# Altium footprint library Qorvo.PcbLib: 2 footprints
Each footprint in its own frame and in the unit in brackets; x right, y up, seen from the top. Pads: shape width x height; smd on the part's side, far side on the other; paste and mask are expansions set on the pad; w line width, h text height; cw(c..) or ccw(c..) is an arc to the next point about the centre after c.
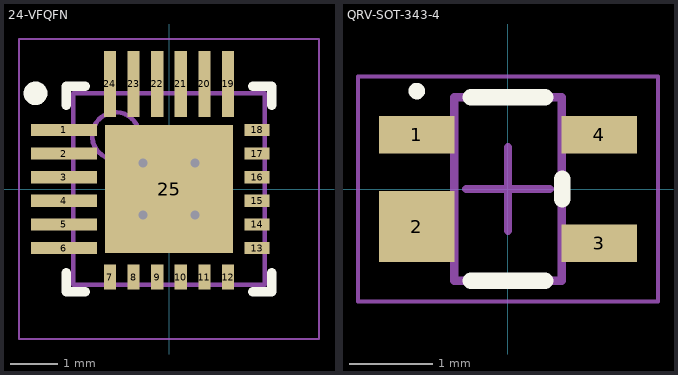
[diagram p0: the footprints below, top view; thin cyan lines are the x and y axes]

## 24-VFQFN [mm] "QFN, 24-Leads, Body 4.00x4.00mm, Pitch 0.50mm, Thermal Pad 2.70x2.70mm, IPC Low Density"
height 0.9
pads (25):
  rect 1.4x0.26 smd: 1(-2.225,1.25) 2(-2.225,0.75) 3(-2.225,0.25) 4(-2.225,-0.25) 5(-2.225,-0.75) 6(-2.225,-1.25)
  rect 0.26x0.528 smd: 7(-1.25,-1.864) 8(-0.75,-1.864) 9(-0.25,-1.864) 10(0.25,-1.864) 11(0.75,-1.864) 12(1.25,-1.864)
  rect 0.528x0.26 smd: 13(1.864,-1.25) 14(1.864,-0.75) 15(1.864,-0.25) 16(1.864,0.25) 17(1.864,0.75) 18(1.864,1.25)
  rect 0.26x1.4 smd: 19(1.25,2.225) 20(0.75,2.225) 21(0.25,2.225) 22(-0.25,2.225) 23(-0.75,2.225) 24(-1.25,2.225)
  rect 2.7x2.7 smd: 25(0,0)
via -0.55,0.55 diameter 0.5 hole 0.2
via 0.55,0.55 diameter 0.5 hole 0.2
via -0.55,-0.55 diameter 0.5 hole 0.2
via 0.55,-0.55 diameter 0.5 hole 0.2
Top Overlay:
  circle w0.25: c-2.825,2.025 r0.125
  lines w0.2: -2.175,-1.775 -2.175,-2.175 -1.775,-2.175 ; -2.175,1.775 -2.175,2.175 -1.775,2.175 ; 1.775,-2.175 2.175,-2.175 2.175,-1.775 ; 1.775,2.175 2.175,2.175 2.175,1.775
Mechanical 13:
  circle w0.1: c-1.125,1.125 r0.5
  lines w0.1: -2.025,-2.025 -2.025,2.025 2.025,2.025 2.025,-2.025 -2.025,-2.025
Mechanical 15:
  lines w0.05: -3.175,-3.175 -3.175,3.175 3.175,3.175 3.175,-3.175 -3.175,-3.175
  lines w0.1: -0.5,0 0.5,0 ; 0,-0.5 0,0.5
3D body "24-VFQFN2.step": height 0.9, standoff 0, extent -2.026,-2.026 2.026,2.026

## QRV-SOT-343-4 [mm] "SOT143, 4-Leads, Body 2.00x2.10mm, Pitch 1.30mm, IPC Medium Density"
height 0.94
pads (4):
  rect 0.9x0.45 smd: 1(-1.095,0.65) 3(1.095,-0.65) 4(1.095,0.65)
  rect 0.9x0.85 smd: 2(-1.095,-0.45)
Top Overlay:
  circle w0.1: c-1.095,1.175 r0.05
  lines w0.2: -0.445,-1.1 0.445,-1.1 ; -0.445,1.1 0.445,1.1 ; 0.65,-0.125 0.65,0.125
Mechanical 13:
  lines w0.1: -0.645,-1.1 0.645,-1.1 0.645,1.1 -0.645,1.1 -0.645,-1.1
Mechanical 15:
  lines w0.05: -1.8,-1.35 1.8,-1.35 1.8,1.35 -1.8,1.35 -1.8,-1.35
  lines w0.1: -0.5,0 0.5,0 ; 0,-0.5 0,0.5
3D body "SOT130P210X94-4N.step": height 0.94, standoff 0.04, extent -0.985,-1.1 0.985,1.1